# EAGLE library part K4F6E3S4HM-MGCJ (library K4F6E3S4HM-MGCJ)
16Gb LPDDR4 SDRAM 200FBGA, 10x15 64Mb x16DQ x8banks x2channels Source: Datasheet <https://static6.arrow.com/aropdfconversion/1c2c2d924dafbdcc4bed550b169d2aeac4e8cfe7/k4f6e3s4hm-mgcj.pdf>
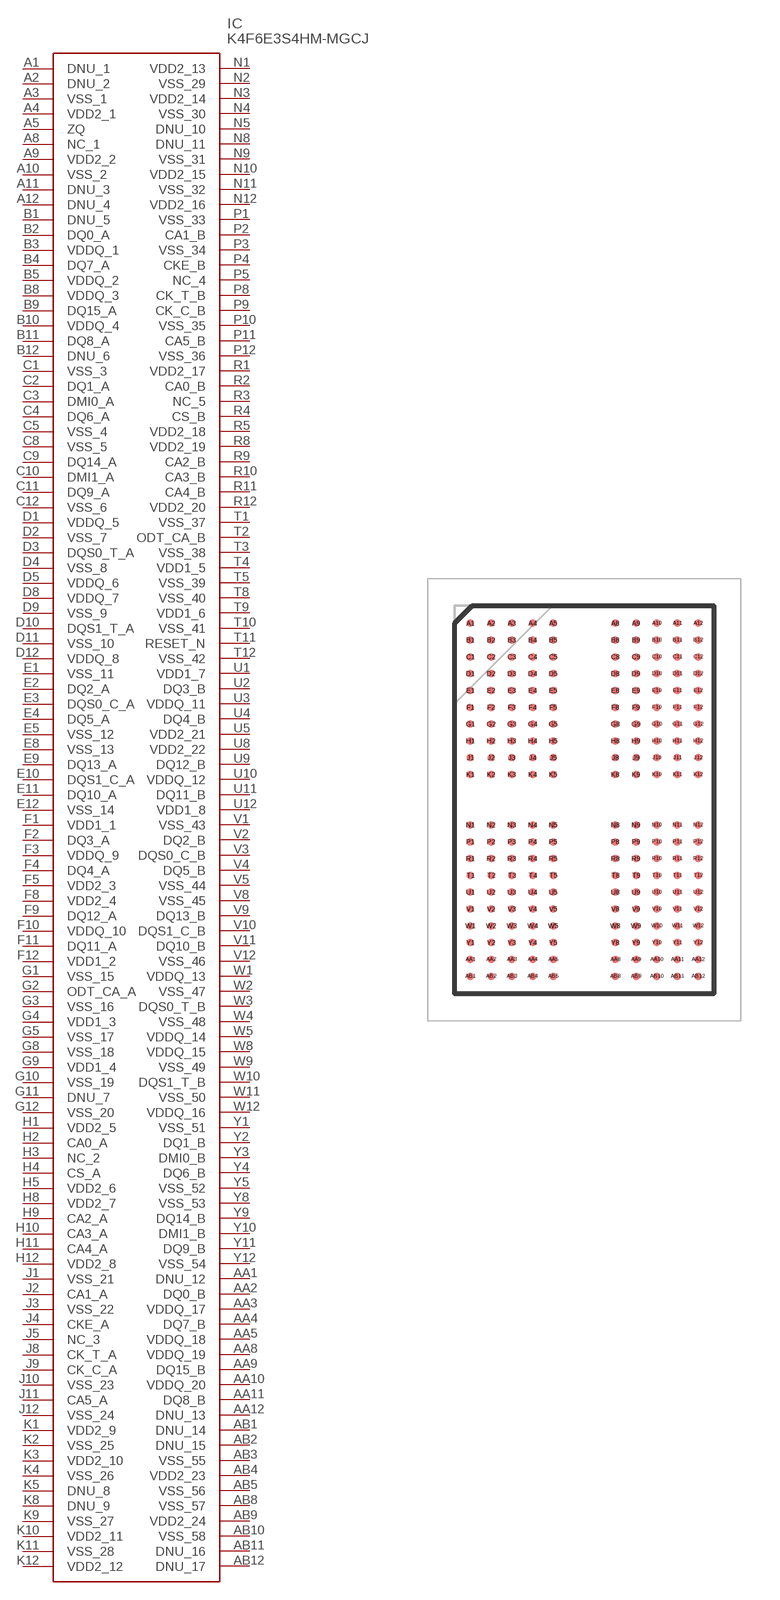
[diagram p0: symbol with the pads of BGA200C65P12X22_1000X1500X100; footprint BGA200C65P12X22_1000X1500X100]

Designator prefix IC

## K4F6E3S4HM-MGCJ (Description: 16Gb LPDDR4 SDRAM 200FBGA, 10x15 64Mb x16DQ x8banks x2channels; Height: 1mm; Manufacturer_Name: SAMSUNG; Manufacturer_Part_Number: K4F6E3S4HM-MGCJ)  [BGA200C65P12X22_1000X1500X100]
A1  DNU_1
A2  DNU_2
A3  VSS_1
A4  VDD2_1
A5  ZQ
A8  NC_1
A9  VDD2_2
A10  VSS_2
A11  DNU_3
A12  DNU_4
AA1  DNU_12
AA2  DQ0_B
AA3  VDDQ_17
AA4  DQ7_B
AA5  VDDQ_18
AA8  VDDQ_19
AA9  DQ15_B
AA10  VDDQ_20
AA11  DQ8_B
AA12  DNU_13
AB1  DNU_14
AB2  DNU_15
AB3  VSS_55
AB4  VDD2_23
AB5  VSS_56
AB8  VSS_57
AB9  VDD2_24
AB10  VSS_58
AB11  DNU_16
AB12  DNU_17
B1  DNU_5
B2  DQ0_A
B3  VDDQ_1
B4  DQ7_A
B5  VDDQ_2
B8  VDDQ_3
B9  DQ15_A
B10  VDDQ_4
B11  DQ8_A
B12  DNU_6
C1  VSS_3
C2  DQ1_A
C3  DMI0_A
C4  DQ6_A
C5  VSS_4
C8  VSS_5
C9  DQ14_A
C10  DMI1_A
C11  DQ9_A
C12  VSS_6
D1  VDDQ_5
D2  VSS_7
D3  DQS0_T_A
D4  VSS_8
D5  VDDQ_6
D8  VDDQ_7
D9  VSS_9
D10  DQS1_T_A
D11  VSS_10
D12  VDDQ_8
E1  VSS_11
E2  DQ2_A
E3  DQS0_C_A
E4  DQ5_A
E5  VSS_12
E8  VSS_13
E9  DQ13_A
E10  DQS1_C_A
E11  DQ10_A
E12  VSS_14
F1  VDD1_1
F2  DQ3_A
F3  VDDQ_9
F4  DQ4_A
F5  VDD2_3
F8  VDD2_4
F9  DQ12_A
F10  VDDQ_10
F11  DQ11_A
F12  VDD1_2
G1  VSS_15
G2  ODT_CA_A
G3  VSS_16
G4  VDD1_3
G5  VSS_17
G8  VSS_18
G9  VDD1_4
G10  VSS_19
G11  DNU_7
G12  VSS_20
H1  VDD2_5
H2  CA0_A
H3  NC_2
H4  CS_A
H5  VDD2_6
H8  VDD2_7
H9  CA2_A
H10  CA3_A
H11  CA4_A
H12  VDD2_8
J1  VSS_21
J2  CA1_A
J3  VSS_22
J4  CKE_A
J5  NC_3
J8  CK_T_A
J9  CK_C_A
J10  VSS_23
J11  CA5_A
J12  VSS_24
K1  VDD2_9
K2  VSS_25
K3  VDD2_10
K4  VSS_26
K5  DNU_8
K8  DNU_9
K9  VSS_27
K10  VDD2_11
K11  VSS_28
K12  VDD2_12
N1  VDD2_13
N2  VSS_29
N3  VDD2_14
N4  VSS_30
N5  DNU_10
N8  DNU_11
N9  VSS_31
N10  VDD2_15
N11  VSS_32
N12  VDD2_16
P1  VSS_33
P2  CA1_B
P3  VSS_34
P4  CKE_B
P5  NC_4
P8  CK_T_B
P9  CK_C_B
P10  VSS_35
P11  CA5_B
P12  VSS_36
R1  VDD2_17
R2  CA0_B
R3  NC_5
R4  CS_B
R5  VDD2_18
R8  VDD2_19
R9  CA2_B
R10  CA3_B
R11  CA4_B
R12  VDD2_20
T1  VSS_37
T2  ODT_CA_B
T3  VSS_38
T4  VDD1_5
T5  VSS_39
T8  VSS_40
T9  VDD1_6
T10  VSS_41
T11  RESET_N
T12  VSS_42
U1  VDD1_7
U2  DQ3_B
U3  VDDQ_11
U4  DQ4_B
U5  VDD2_21
U8  VDD2_22
U9  DQ12_B
U10  VDDQ_12
U11  DQ11_B
U12  VDD1_8
V1  VSS_43
V2  DQ2_B
V3  DQS0_C_B
V4  DQ5_B
V5  VSS_44
V8  VSS_45
V9  DQ13_B
V10  DQS1_C_B
V11  DQ10_B
V12  VSS_46
W1  VDDQ_13
W2  VSS_47
W3  DQS0_T_B
W4  VSS_48
W5  VDDQ_14
W8  VDDQ_15
W9  VSS_49
W10  DQS1_T_B
W11  VSS_50
W12  VDDQ_16
Y1  VSS_51
Y2  DQ1_B
Y3  DMI0_B
Y4  DQ6_B
Y5  VSS_52
Y8  VSS_53
Y9  DQ14_B
Y10  DMI1_B
Y11  DQ9_B
Y12  VSS_54

## Footprint BGA200C65P12X22_1000X1500X100 (pad centres in mm)
200-Ball Fine pitch Ball Grid Array Package
smd 0.298 x 0.298: A1 -4.4,6.825; A2 -3.6,6.825; A3 -2.8,6.825; A4 -2,6.825; A5 -1.2,6.825; A8 1.2,6.825; A9 2,6.825; A10 2.8,6.825; A11 3.6,6.825; A12 4.4,6.825; AA1 -4.4,-6.175; AA2 -3.6,-6.175; AA3 -2.8,-6.175; AA4 -2,-6.175; AA5 -1.2,-6.175; AA8 1.2,-6.175; AA9 2,-6.175; AA10 2.8,-6.175; AA11 3.6,-6.175; AA12 4.4,-6.175; AB1 -4.4,-6.825; AB2 -3.6,-6.825; AB3 -2.8,-6.825; AB4 -2,-6.825; AB5 -1.2,-6.825; AB8 1.2,-6.825; AB9 2,-6.825; AB10 2.8,-6.825; AB11 3.6,-6.825; AB12 4.4,-6.825; B1 -4.4,6.175; B2 -3.6,6.175; B3 -2.8,6.175; B4 -2,6.175; B5 -1.2,6.175; B8 1.2,6.175; B9 2,6.175; B10 2.8,6.175; B11 3.6,6.175; B12 4.4,6.175; C1 -4.4,5.525; C2 -3.6,5.525; C3 -2.8,5.525; C4 -2,5.525; C5 -1.2,5.525; C8 1.2,5.525; C9 2,5.525; C10 2.8,5.525; C11 3.6,5.525; C12 4.4,5.525; D1 -4.4,4.875; D2 -3.6,4.875; D3 -2.8,4.875; D4 -2,4.875; D5 -1.2,4.875; D8 1.2,4.875; D9 2,4.875; D10 2.8,4.875; D11 3.6,4.875; D12 4.4,4.875; E1 -4.4,4.225; E2 -3.6,4.225; E3 -2.8,4.225; E4 -2,4.225; E5 -1.2,4.225; E8 1.2,4.225; E9 2,4.225; E10 2.8,4.225; E11 3.6,4.225; E12 4.4,4.225; F1 -4.4,3.575; F2 -3.6,3.575; F3 -2.8,3.575; F4 -2,3.575; F5 -1.2,3.575; F8 1.2,3.575; F9 2,3.575; F10 2.8,3.575; F11 3.6,3.575; F12 4.4,3.575; G1 -4.4,2.925; G2 -3.6,2.925; G3 -2.8,2.925; G4 -2,2.925; G5 -1.2,2.925; G8 1.2,2.925; G9 2,2.925; G10 2.8,2.925; G11 3.6,2.925; G12 4.4,2.925; H1 -4.4,2.275; H2 -3.6,2.275; H3 -2.8,2.275; H4 -2,2.275; H5 -1.2,2.275; H8 1.2,2.275; H9 2,2.275; H10 2.8,2.275; H11 3.6,2.275; H12 4.4,2.275; J1 -4.4,1.625; J2 -3.6,1.625; J3 -2.8,1.625; J4 -2,1.625; J5 -1.2,1.625; J8 1.2,1.625; J9 2,1.625; J10 2.8,1.625; J11 3.6,1.625; J12 4.4,1.625; K1 -4.4,0.975; K2 -3.6,0.975; K3 -2.8,0.975; K4 -2,0.975; K5 -1.2,0.975; K8 1.2,0.975; K9 2,0.975; K10 2.8,0.975; K11 3.6,0.975; K12 4.4,0.975; N1 -4.4,-0.975; N2 -3.6,-0.975; N3 -2.8,-0.975; N4 -2,-0.975; N5 -1.2,-0.975; N8 1.2,-0.975; N9 2,-0.975; N10 2.8,-0.975; N11 3.6,-0.975; N12 4.4,-0.975; P1 -4.4,-1.625; P2 -3.6,-1.625; P3 -2.8,-1.625; P4 -2,-1.625; P5 -1.2,-1.625; P8 1.2,-1.625; P9 2,-1.625; P10 2.8,-1.625; P11 3.6,-1.625; P12 4.4,-1.625; R1 -4.4,-2.275; R2 -3.6,-2.275; R3 -2.8,-2.275; R4 -2,-2.275; R5 -1.2,-2.275; R8 1.2,-2.275; R9 2,-2.275; R10 2.8,-2.275; R11 3.6,-2.275; R12 4.4,-2.275; T1 -4.4,-2.925; T2 -3.6,-2.925; T3 -2.8,-2.925; T4 -2,-2.925; T5 -1.2,-2.925; T8 1.2,-2.925; T9 2,-2.925; T10 2.8,-2.925; T11 3.6,-2.925; T12 4.4,-2.925; U1 -4.4,-3.575; U2 -3.6,-3.575; U3 -2.8,-3.575; U4 -2,-3.575; U5 -1.2,-3.575; U8 1.2,-3.575; U9 2,-3.575; U10 2.8,-3.575; U11 3.6,-3.575; U12 4.4,-3.575; V1 -4.4,-4.225; V2 -3.6,-4.225; V3 -2.8,-4.225; V4 -2,-4.225; V5 -1.2,-4.225; V8 1.2,-4.225; V9 2,-4.225; V10 2.8,-4.225; V11 3.6,-4.225; V12 4.4,-4.225; W1 -4.4,-4.875; W2 -3.6,-4.875; W3 -2.8,-4.875; W4 -2,-4.875; W5 -1.2,-4.875; W8 1.2,-4.875; W9 2,-4.875; W10 2.8,-4.875; W11 3.6,-4.875; W12 4.4,-4.875; Y1 -4.4,-5.525; Y2 -3.6,-5.525; Y3 -2.8,-5.525; Y4 -2,-5.525; Y5 -1.2,-5.525; Y8 1.2,-5.525; Y9 2,-5.525; Y10 2.8,-5.525; Y11 3.6,-5.525; Y12 4.4,-5.525